# Altium footprint library StairMastersPDB.PcbLib: 15 footprints
Each footprint in its own frame and in the unit in brackets; x right, y up, seen from the top. Pads: shape width x height; smd on the part's side, far side on the other; paste and mask are expansions set on the pad; w line width, h text height; cw(c..) or ccw(c..) is an arc to the next point about the centre after c.
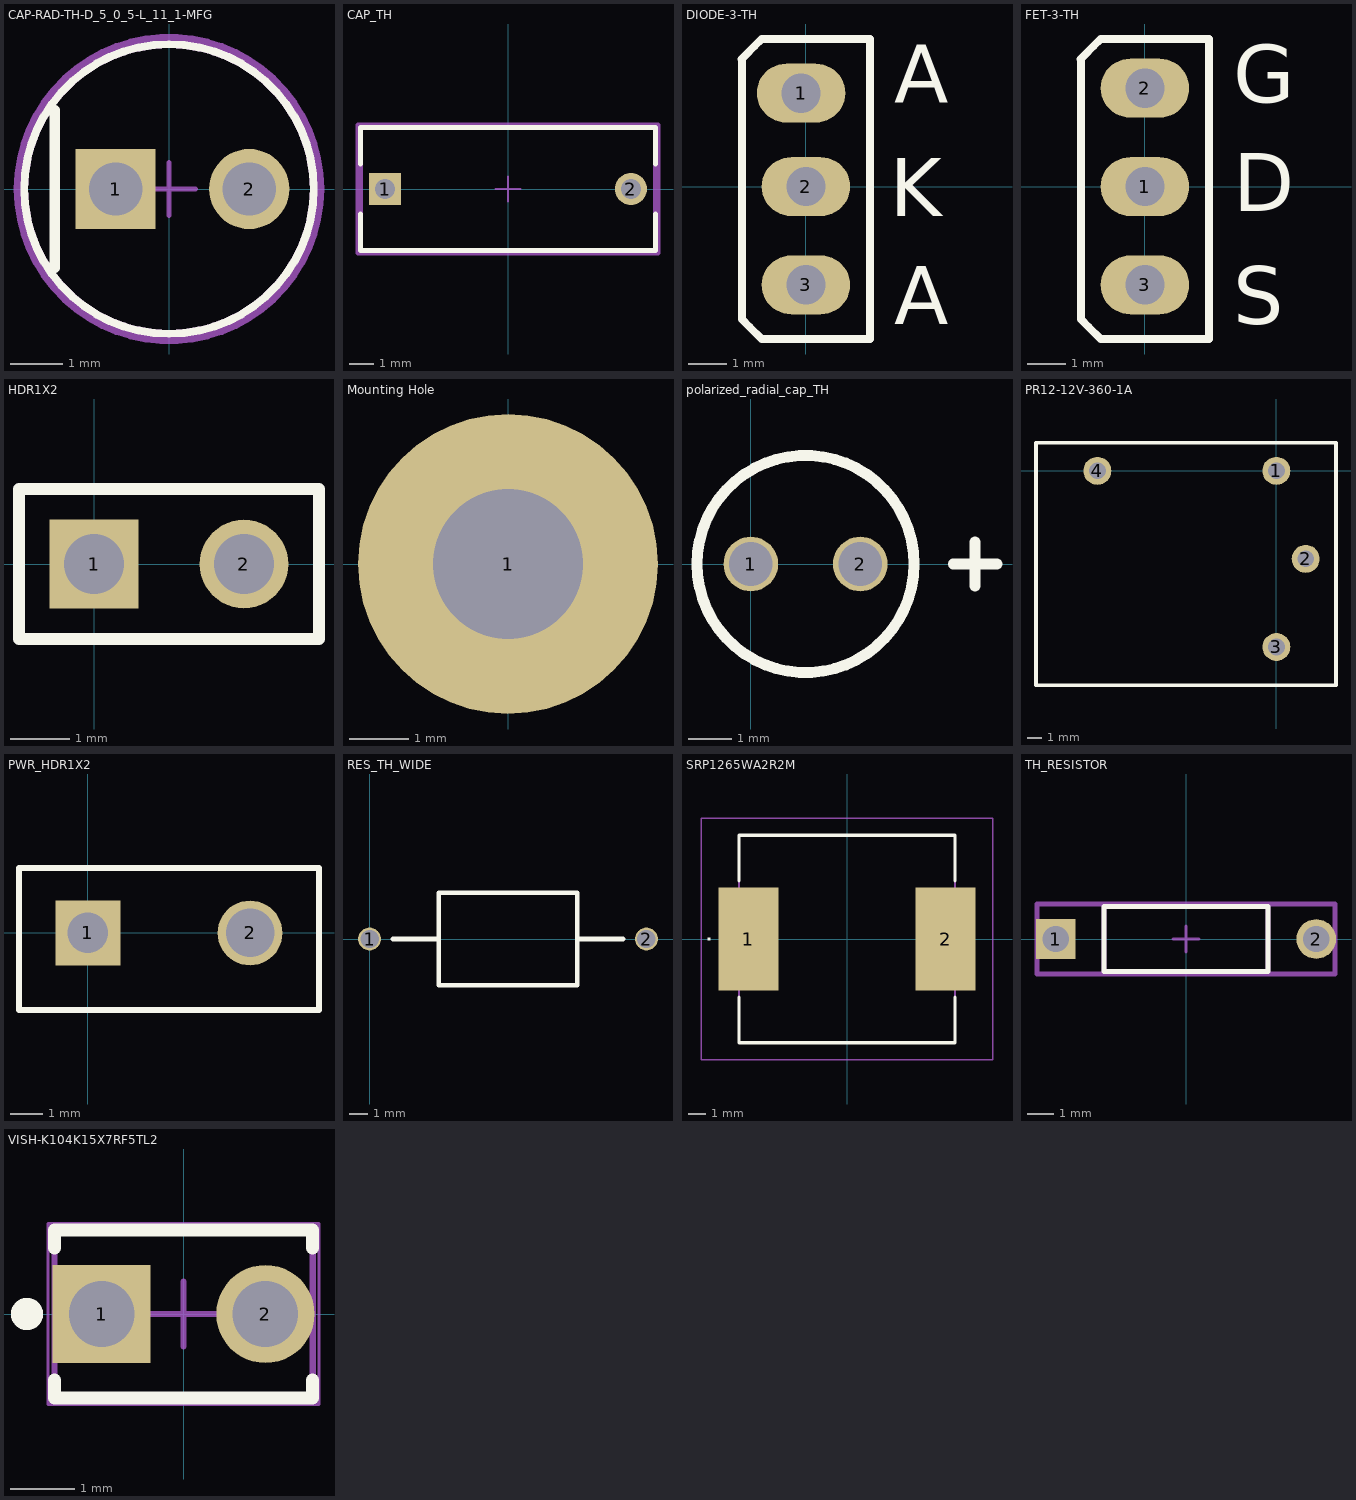
[diagram p0: the footprints below, top view; thin cyan lines are the x and y axes]

## CAP-RAD-TH-D_5_0_5-L_11_1-MFG [mil]
pads (2):
  rect 60x60 hole 40 paste-39370.1 mask+0: 1(-40,0)
  round 60 hole 40 paste-39370.1 mask+0: 2(60,0)
Top Overlay:
  circle w5.91: c0,0 r108.27
  lines w7.87: -85.63,-59.06 -85.63,59.06
Top Assembly:
  text ".Designator" at 0,7.39 h39.37
Top 3D Body:
  circle w5.91: c0,0 r108.27
Top Courtyard:
  lines w7.87: -112.2,0 cw(c0,0) 112.2,0 cw(c0,0) -112.2,0
Top Component Center:
  lines w3.94: -19.68,0 19.68,0 ; 0,-19.68 0,19.68
3D body "Cap_Panasonic_ECA1CM220B_eec.STEP": height 10, standoff 0, extent -112.2,-112.2 112.2,112.2

## CAP_TH [mm]
pads (2):
  rect 1.3x1.3 hole 0.8 paste-1000 mask+0: 1(-5,0)
  round 1.3 hole 0.8 paste-1000 mask+0: 2(5,0)
Top Overlay:
  lines w0.2: -6,-1.025 -6,-2.5 6,-2.5 6,-1.025 ; -6,1.025 -6,2.5 6,2.5 6,1.025
Top Assembly:
  lines w0.2: -6.1,-2.6 -6.1,2.6 6.1,2.6 6.1,-2.6 -6.1,-2.6
  text ".Designator" at 1.109,-0.259 h1
Top 3D Body:
  lines w0.2: -6,-2.5 -6,2.5 6,2.5 6,-2.5 -6,-2.5
Top Courtyard:
  lines w0.2: -6.1,-2.6 -6.1,2.6 6.1,2.6 6.1,-2.6 -6.1,-2.6
Top Component Center:
  lines w0.1: -0.5,0 0.5,0 ; 0,-0.5 0,0.5
3D body "Cap_Vishay_BC_Components_VY1222M47Y5UQ63V0_eec.STEP": height 0.25, standoff 0, extent -6.1,-2.6 6.1,2.6

## DIODE-3-TH [mil] "TO, Flat Index; 3 In-Line, Axial Leads; Body Dia. 4.6mm; Lead Dia. 0.5 mm (max)"
height 157.87
pads (3):
  oval 90x60 hole 40: 1(-5,95) 2(0,0) 3(0,-100)
Top Overlay:
  lines w7.87: -65.6,129.4 -61.8,133.2 -52.4,142.6 -45,150 65,150 65,77.5 65,-77.5 65,-155 38.75,-155 -13.75,-155 -45,-155 -57.5,-142.5 -65,-135 -65,-80 -65,129.4
  text "A" at 90,85 h59.05
  text "K" at 85,-30 h59.05
  text "A" at 90,-140 h59.05
Mechanical 15:
  lines w3.94: -19.68,0 19.68,0 ; 0,-19.68 0,19.69

## FET-3-TH [mil] "TO, Flat Index; 3 In-Line, Axial Leads; Body Dia. 4.6mm; Lead Dia. 0.5 mm (max)"
height 157.87
pads (3):
  oval 90x60 hole 40: 1(0,0) 2(0,100) 3(0,-100)
Top Overlay:
  lines w7.87: -65.6,129.4 -61.8,133.2 -52.4,142.6 -45,150 65,150 65,77.5 65,-77.5 65,-155 38.75,-155 -13.75,-155 -45,-155 -57.5,-142.5 -65,-135 -65,-80 -65,129.4
  text "G" at 90,85 h59.05
  text "S" at 90,-140 h59.05
  text "D" at 90,-25 h59.05
Mechanical 15:
  lines w3.94: -19.68,0 19.68,0 ; 0,-19.68 0,19.69

## HDR1X2 [mm] "Connector; Header; 2 Position"
pads (2):
  rect 1.5x1.5 hole 1.016: 1(0,0)
  round 1.5 hole 1.016: 2(2.54,0)
Top Overlay:
  lines w0.2: -1.27,-1.27 -1.27,1.27 3.81,1.27 3.81,-1.27 -1.27,-1.27

## Mounting Hole [mil]
pads (1):
  round 200 hole 100: 1(0,0)

## PCBComponent_1 [mil]

## PCBComponent_1 - duplicate [mil]

## polarized_radial_cap_TH [mil]
pads (2):
  round 50 hole 40: 1(0,0) 2(100,0)
Top Overlay:
  circle w10: c50,0 r99.25
  lines w10: 185,0 225,0 ; 205,-20 205,20

## PR12-12V-360-1A [mil] "General Puropse Relay"
height 633
pads (4):
  round 75 hole 45: 1(0,0) 2(78.74,-236.22) 3(0,-472.44) 4(-480.31,0)
Top Overlay:
  lines w10: -645,-575 160,-575 160,75 -645,75 -645,-575

## PWR_HDR1X2 [mil] "Power Connector; Header; 2 Position"
pads (2):
  rect 80x80 hole 50 square: 1(0,0)
  round 80 hole 60: 2(200,0)
Top Overlay:
  lines w7.87: -85,-95 285,-95 285,27.81 285,80 237.5,80 -85,80 -85,31.25 -85,-56.25 -85,-95

## RES_TH_WIDE [mil]
pads (2):
  round 50 hole 40: 1(0,0) 2(600,0)
Top Overlay:
  lines w10: 50,0 150,0 ; 450,0 550,0 ; 150,0 150,-100 450,-100 450,100 150,100 150,0

## SRP1265WA2R2M [mm]
pads (2):
  rect 3.5x6 smd: 1(-5.75,0) 2(5.75,0)
Top Overlay:
  lines w0.1: -8.1,0 ccw(c-8.05,0) -8,0 ccw(c-8.05,0) -8.1,0
  lines w0.2: -6.3,-3.4 -6.3,-6.05 6.3,-6.05 6.3,-3.4 ; -6.3,3.4 -6.3,6.05 6.3,6.05 6.3,3.4
Mechanical 15:
  lines w0.1: -6.3,-6.05 6.3,-6.05 6.3,6.05 -6.3,6.05 -6.3,-6.05
Mechanical 20:
  lines w0.1: -8.5,-7.05 8.5,-7.05 8.5,7.05 -8.5,7.05 -8.5,-7.05
3D body "SRP1265WA-2R2M.stp": height 5.8, standoff -4.65, extent -10,-3.376 10,3.376

## TH_RESISTOR [mil]
pads (2):
  rect 60x60 hole 40 paste-39370.1 mask+0: 1(-196.85,0)
  round 60 hole 40 paste-39370.1 mask+0: 2(196.85,0)
Top Overlay:
  lines w7.87: -124.02,-49.21 124.02,-49.21 124.02,49.21 -124.02,49.21 -124.02,-49.21
Top Assembly:
  lines w7.87: -225.39,-53.15 -225.39,53.15 225.39,53.15 225.39,-53.15 -225.39,-53.15
  text ".Designator" at 32.91,-7.74 h39.37
Top 3D Body:
  lines w7.87: -124.02,-49.21 124.02,-49.21 124.02,49.21 -124.02,49.21 -124.02,-49.21
Top Courtyard:
  lines w7.87: -225.39,-53.15 -225.39,53.15 225.39,53.15 225.39,-53.15 -225.39,-53.15
Top Component Center:
  lines w3.94: -19.68,0 19.68,0 ; 0,-19.68 0,19.68
3D body "Res_vishay_MBB0207VD2500BC100_eec.STEP": height 10, standoff 0, extent -225.39,-53.15 225.39,53.15

## VISH-K104K15X7RF5TL2 [mil] "THD, 2-Leads, Body 4x2.6mm"
height 220.47
pads (2):
  rect 60x60 hole 40: 1(-50,0)
  round 60 hole 40: 2(50,0)
Top Overlay:
  circle w9.84: c-95.47,0 r4.92
  lines w7.87: -78.74,-40.35 -78.74,-51.18 78.74,-51.18 78.74,-40.35 ; -78.74,40.35 -78.74,51.18 78.74,51.18 78.74,40.35
Mechanical 13:
  lines w3.94: -78.74,-51.18 -78.74,51.18 78.74,51.18 78.74,-51.18 -78.74,-51.18
Mechanical 15:
  lines w1.97: -82.68,-55.12 -82.68,55.12 82.68,55.12 82.68,-55.12 -82.68,-55.12
  lines w3.94: -19.68,0 19.68,0 ; 0,-19.68 0,19.68
3D body: height 220.47, standoff 0, extent -78.74,-51.18 78.74,51.18